# Altium schematic symbol library 2.5uf 25V.SchLib: 1 symbol
Pins are listed as number, name and electrical type; pins without a type are passive.

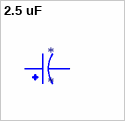
[diagram p0: symbol 2.5 uF]

## 2.5 uF
designator *
footprint CAPPRD200W50D550H1250 - duplicate
pins: 1, 2